# EAGLE library part 172319-1 (library 172319-1)
CONN HEADER R/A 52POS Source: Datasheet <https://www.te.com/commerce/DocumentDelivery/DDEController?Action=srchrtrv&DocNm=172319&DocType=Customer Drawing&DocLang=Japanese>
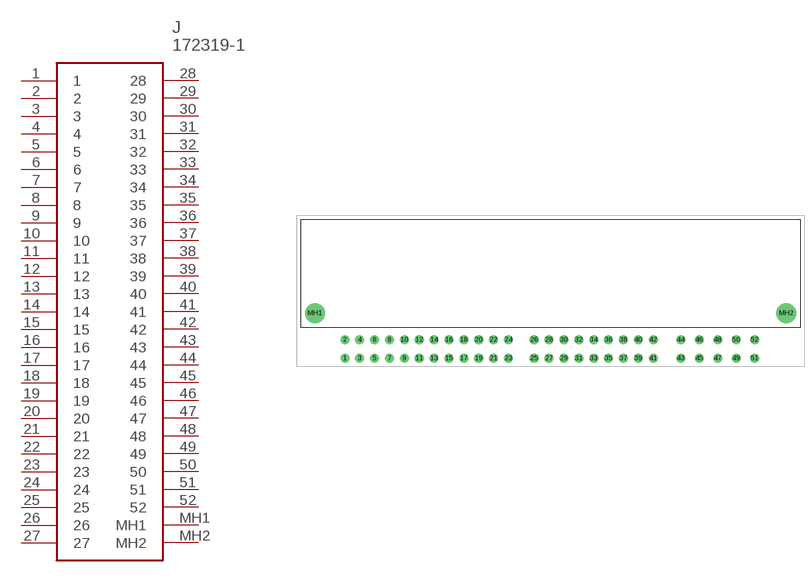
[diagram p0: symbol with the pads of 1723191; footprint 1723191]

Designator prefix J

## 172319-1 (Arrow_Part_Number: 172319-1; Description: CONN HEADER R/A 52POS; Height: 22.4mm; Manufacturer_Name: TE Connectivity; Manufacturer_Part_Number: 172319-1; Mouser_Part_Number: N/A; Mouser_Price-Stock: https://www.mouser.co.uk/ProductDetail/TE-Connectivity-AMP/172319-1?qs=xLhQT1EE4V99EE%2FLqm10cw%3D%3D)  [1723191]
1  1
2  2
3  3
4  4
5  5
6  6
7  7
8  8
9  9
10  10
11  11
12  12
13  13
14  14
15  15
16  16
17  17
18  18
19  19
20  20
21  21
22  22
23  23
24  24
25  25
26  26
27  27
28  28
29  29
30  30
31  31
32  32
33  33
34  34
35  35
36  36
37  37
38  38
39  39
40  40
41  41
42  42
43  43
44  44
45  45
46  46
47  47
48  48
49  49
50  50
51  51
52  52
MH1  MH1
MH2  MH2

## Footprint 1723191 (pad centres in mm)
172319-1-3
drill 1.5 pad 2.25: 1 0,0; 2 0,4.6; 3 3.7,0; 4 3.7,4.6; 5 7.4,0; 6 7.4,4.6; 7 11.1,0; 8 11.1,4.6; 9 14.8,0; 10 14.8,4.6; 11 18.5,0; 12 18.5,4.6; 13 22.2,0; 14 22.2,4.6; 15 25.9,0; 16 25.9,4.6; 17 29.6,0; 18 29.6,4.6; 19 33.3,0; 20 33.3,4.6; 21 37,0; 22 37,4.6; 23 40.7,0; 24 40.7,4.6; 25 47.1,0; 26 47.1,4.6; 27 50.8,0; 28 50.8,4.6; 29 54.5,0; 30 54.5,4.6; 31 58.2,0; 32 58.2,4.6; 33 61.9,0; 34 61.9,4.6; 35 65.6,0; 36 65.6,4.6; 37 69.3,0; 38 69.3,4.6; 39 73,0; 40 73,4.6; 41 76.7,0; 42 76.7,4.6; 43 83.55,0; 44 83.55,4.6; 45 88.15,0; 46 88.15,4.6; 47 92.75,0; 48 92.75,4.6; 49 97.35,0; 50 97.35,4.6; 51 101.95,0; 52 101.95,4.6
drill 3.35 pad 5.025: MH1 -7.45,11.2; MH2 109.85,11.2